# EAGLE library part HFR026RA (library con-thomas-betts)
THOMAS&BETTS
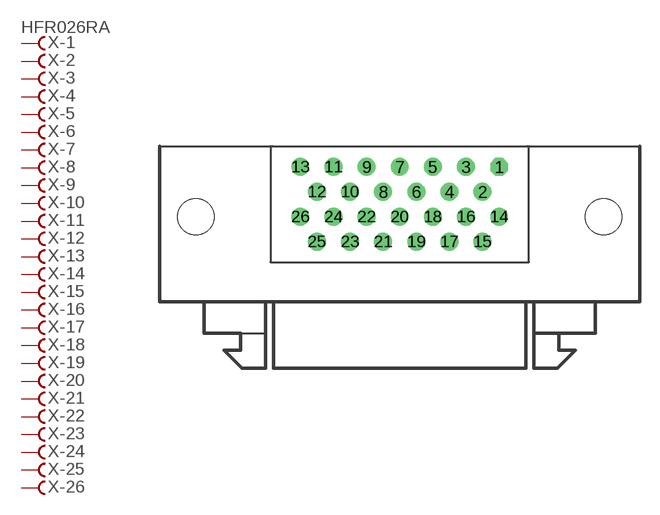
[diagram p0: symbol with the pads of HFR026RA; footprint HFR026RA]

Designator prefix X; gates -2=F -3=F -4=F -5=F -6=F -7=F -8=F -9=F -10=F -11=F -12=F -13=F -14=F -15=F -16=F -17=F -18=F -19=F -20=F -21=F -22=F -23=F -24=F -25=F -26=F -1=FV

## HFR026RA (OC_FARNELL: unknown; OC_NEWARK: unknown)  [HFR026RA]
1  -1:F  pas
2  -2:F  pas
3  -3:F  pas
4  -4:F  pas
5  -5:F  pas
6  -6:F  pas
7  -7:F  pas
8  -8:F  pas
9  -9:F  pas
10  -10:F  pas
11  -11:F  pas
12  -12:F  pas
13  -13:F  pas
14  -14:F  pas
15  -15:F  pas
16  -16:F  pas
17  -17:F  pas
18  -18:F  pas
19  -19:F  pas
20  -20:F  pas
21  -21:F  pas
22  -22:F  pas
23  -23:F  pas
24  -24:F  pas
25  -25:F  pas
26  -26:F  pas

## Footprint HFR026RA (pad centres in mm)
THOMAS&BETTS Fine Pitch "D" Connector HFR026RA29xxx
drill 0.864 octagon: 1 7.62,8.89
drill 0.864 round: 2 6.35,6.98; 3 5.08,8.89; 4 3.81,6.98; 5 2.54,8.89; 6 1.27,6.98; 7 0,8.89; 8 -1.27,6.98; 9 -2.54,8.89; 10 -3.81,6.98; 11 -5.08,8.89; 12 -6.35,6.98; 13 -7.62,8.89; 14 7.62,5.07; 15 6.35,3.16; 16 5.08,5.07; 17 3.81,3.16; 18 2.54,5.07; 19 1.27,3.16; 20 0,5.07; 21 -1.27,3.16; 22 -2.54,5.07; 23 -3.81,3.16; 24 -5.08,5.07; 25 -6.35,3.16; 26 -7.62,5.07
hole 2.769 at 15.621,5.07
hole 2.769 at -15.621,5.07